# EAGLE library part M06 (library SSI)
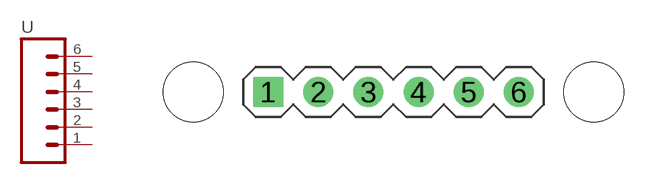
[diagram p33: symbol with the pads of M06_SECURE; footprint M06_SECURE]

Designator prefix -

## M06SECURE  [M06_SECURE]
1  1  pas
2  2  pas
3  3  pas
4  4  pas
5  5  pas
6  6  pas

## Footprint M06_SECURE (pad centres in mm)
6-pin connector with integrated retention feature
drill 1.016 square: 1 0,0
drill 1.016: 2 2.54,0; 3 5.08,0; 4 7.62,0; 5 10.16,0; 6 12.7,0
hole 3.048 at -3.81,0
hole 3.048 at 16.51,0